# Altium footprint library SOIC127P600X175-14N[MS-012-AB].PcbLib: 1 footprints
Each footprint in its own frame and in the unit in brackets; x right, y up, seen from the top. Pads: shape width x height; smd on the part's side, far side on the other; paste and mask are expansions set on the pad; w line width, h text height; cw(c..) or ccw(c..) is an arc to the next point about the centre after c.
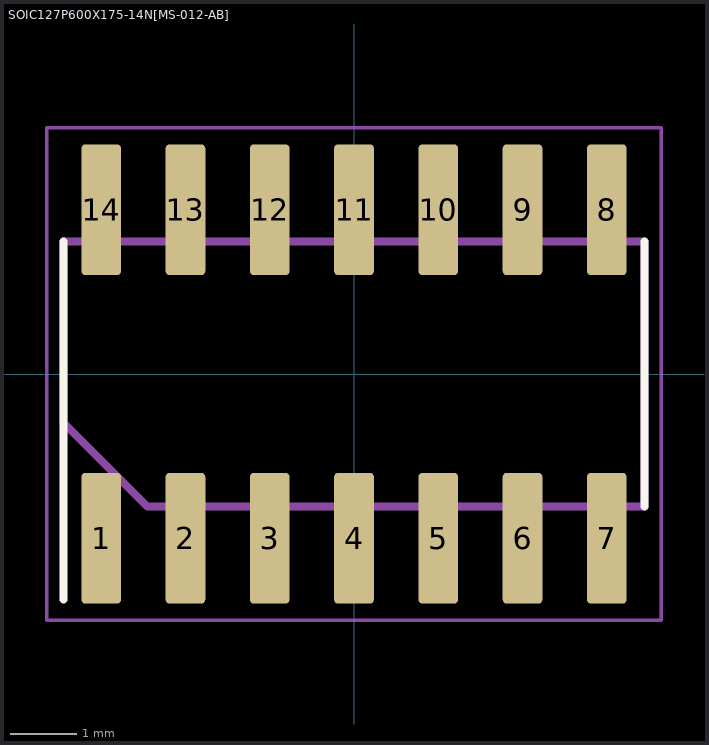
[diagram p0: the footprint, top view; thin cyan lines are the x and y axes]

## SOIC127P600X175-14N[MS-012-AB] [mm]
height 1.75
pads (14):
  rrect20% 0.6x1.97 smd: 1(-3.81,-2.475) 2(-2.54,-2.475) 3(-1.27,-2.475) 4(0,-2.475) 5(1.27,-2.475) 6(2.54,-2.475) 7(3.81,-2.475) 8(3.81,2.475) 9(2.54,2.475) 10(1.27,2.475) 11(0,2.475) 12(-1.27,2.475) 13(-2.54,2.475) 14(-3.81,2.475)
Top Overlay:
  lines w0.12: -4.38,-3.4 -4.38,2 ; 4.38,-2 4.38,2
Assembly Top:
  lines w0.12: -4.38,-0.73 -4.38,2 4.38,2 4.38,-2 -3.11,-2 -4.38,-0.73
  text ".Designator" at -4.1,0.1 h0.7
Courtyard:
  lines w0.05: -4.63,-3.71 4.63,-3.71 4.63,3.71 -4.63,3.71 -4.63,-3.71
3D body: height 1.88, standoff 0, extent -4.37,-3.028 4.37,3.028